# EAGLE library part 614004134726 (library Wurth_Elektronik_Electromechanic_Input-Output_Connectors_rev15c)
WR-COM Up Right USB Type A,4 pins=>Code : Con_I-O_COM_USB-2.0_A_614004134726 <http://katalog.we-online.de/media/images/eican/Con_I-O_COM_USB-2.0_A_614004134726_pf2.jpg> Details see: http://katalog.we-online.de/en/em/614_004_134_726 Created 2014-07-09, Karrer Zheng 2014 (C) Würth Elektronik
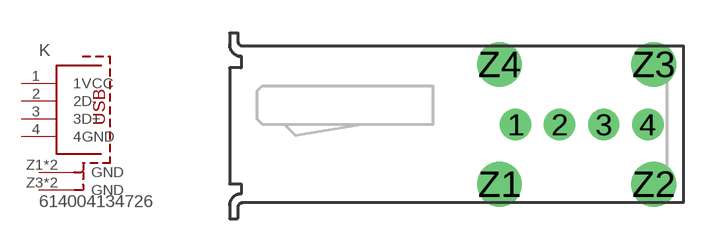
[diagram p160: symbol with the pads of 614004134726; footprint 614004134726]

Designator prefix K

## 614004134726  [614004134726]
1  1VCC  pas
2  2D-  pas
3  3D+  pas
4  4GND  pas
Z1  GND
Z2  GND
Z3  GND
Z4  GND

## Footprint 614004134726 (pad centres in mm)
WR-COM Up Right USB Type A, 4 pins
drill 0.92: 1 0,0; 2 2,0; 3 4,0; 4 6,0
drill 1.35: Z1 -0.73,-2.72; Z2 6.27,-2.72; Z3 6.27,2.72; Z4 -0.73,2.72